# EAGLE library part MAX11300 (library ds_ic_peripherals)
PIXI, 20-Port Programmable Mixed-Signal I/O with 12-Bit ADC, 12-Bit DAC, Analog Switches, and GPIO
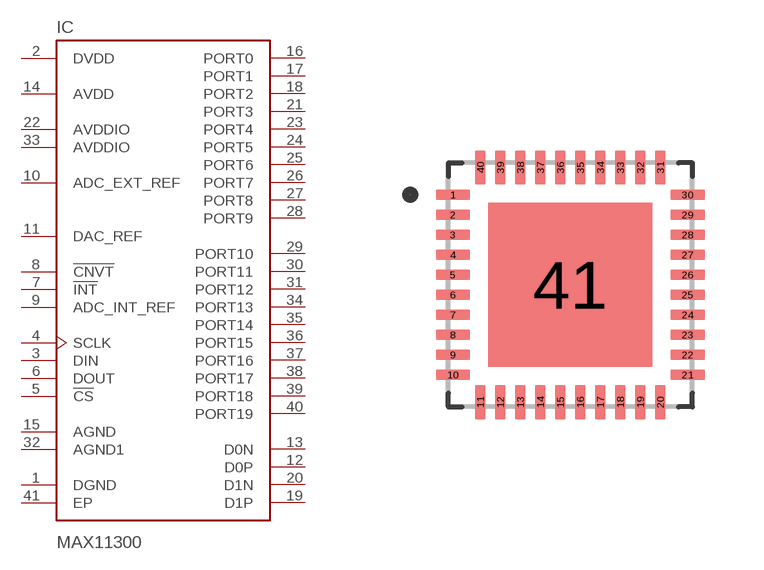
[diagram p55: symbol with the pads of TQFN40; footprint TQFN40]

Designator prefix IC

## MAX11300GTL+ (DATASHEET: https://www.analog.com/media/en/technical-documentation/data-sheets/max11300.pdf; DESCRIPTION: PIXI, 20-Port Programmable Mixed-Signal I/O with 12-Bit ADC, 12-Bit DAC, Analog Switches, and GPIO; LCSC_PART: C7460427; MANUFACURER: Maxim Integrated; MPN: MAX11300GTL+; ROHS: YES; VALUE: MAX11300)  [TQFN40]
1  DGND  pwr
2  DVDD  pwr
3  DIN  in
4  SCLK  in
5  !CS  in
6  DOUT  out
7  !INT  out
8  !CNVT  in
9  ADC_INT_REF  out
10  ADC_EXT_REF  in
11  DAC_REF  in
12  D0P  in
13  D0N  in
14  AVDD  pwr
15  AGND  pwr
16  PORT0
17  PORT1
18  PORT2
19  D1P  in
20  D1N  in
21  PORT3
22  AVDDIO  pwr
23  PORT4
24  PORT5
25  PORT6
26  PORT7
27  PORT8
28  PORT9
29  PORT10
30  PORT11
31  PORT12
32  AGND1  pwr
33  AVDDIO  pwr
34  PORT13
35  PORT14
36  PORT15
37  PORT16
38  PORT17
39  PORT18
40  PORT19
41  EP  pwr

## Footprint TQFN40 (pad centres in mm)
smd 0.86 x 0.27: 1 -2.935,2.25; 2 -2.935,1.75; 3 -2.935,1.25; 4 -2.935,0.75; 5 -2.935,0.25; 6 -2.935,-0.25; 7 -2.935,-0.75; 8 -2.935,-1.25; 9 -2.935,-1.75; 10 -2.935,-2.25; 21 2.935,-2.25; 22 2.935,-1.75; 23 2.935,-1.25; 24 2.935,-0.75; 25 2.935,-0.25; 26 2.935,0.25; 27 2.935,0.75; 28 2.935,1.25; 29 2.935,1.75; 30 2.935,2.25
smd 0.27 x 0.86: 11 -2.25,-2.935; 12 -1.75,-2.935; 13 -1.25,-2.935; 14 -0.75,-2.935; 15 -0.25,-2.935; 16 0.25,-2.935; 17 0.75,-2.935; 18 1.25,-2.935; 19 1.75,-2.935; 20 2.25,-2.935; 31 2.25,2.935; 32 1.75,2.935; 33 1.25,2.935; 34 0.75,2.935; 35 0.25,2.935; 36 -0.25,2.935; 37 -0.75,2.935; 38 -1.25,2.935; 39 -1.75,2.935; 40 -2.25,2.935
smd 4.1 x 4.1: 41 0,0